# EAGLE library part LTC3567 (library LiPoPSU)
LTC3567 High Efficiency USB Power Manager Plus 1A Buck-Boost Converter with I2C Control
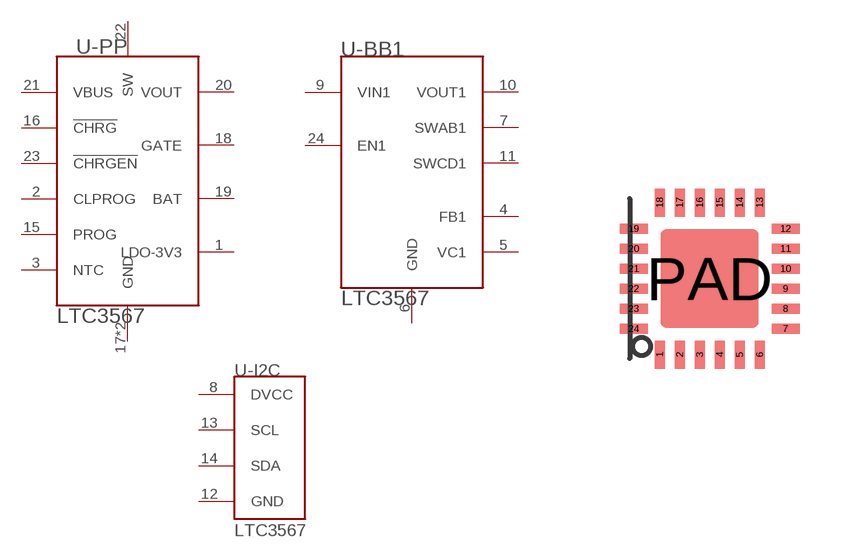
[diagram p0: symbol with the pads of QFN24-4X4(UF); footprint QFN24-4X4(UF)]

Designator prefix U; gates -PP=LTC3567-PP -BB1=LTC3567-BB1 -I2C=LTC3567-I2C

## LTC3567  [QFN24-4X4(UF)]
1  -PP:LDO-3V3
2  -PP:CLPROG
3  -PP:NTC
4  -BB1:FB1
5  -BB1:VC1
6  -BB1:GND  pwr
7  -BB1:SWAB1
8  -I2C:DVCC  in
9  -BB1:VIN1  in
10  -BB1:VOUT1  out
11  -BB1:SWCD1
12  -I2C:GND  pwr
13  -I2C:SCL  in
14  -I2C:SDA  in
15  -PP:PROG
16  -PP:!CHRG!  oc
17  -PP:GND  pwr
18  -PP:GATE
19  -PP:BAT
20  -PP:VOUT
21  -PP:VBUS  in
22  -PP:SW
23  -PP:!CHRGEN!  in
24  -BB1:EN1  in
PAD  -PP:GND  pwr

## Footprint QFN24-4X4(UF) (pad centres in mm)
UF Package 24-Lead Plastic QFN (4mm × 4mm) (Reference LTC DWG # 05-08-1697 Rev B)
smd 0.25 x 0.7: 1 -1.25,-1.9; 2 -0.75,-1.9; 3 -0.25,-1.9; 4 0.25,-1.9; 5 0.75,-1.9; 6 1.25,-1.9; 13 1.25,1.9; 14 0.75,1.9; 15 0.25,1.9; 16 -0.25,1.9; 17 -0.75,1.9; 18 -1.25,1.9
smd 0.7 x 0.25: 7 1.9,-1.25; 8 1.9,-0.75; 9 1.9,-0.25; 10 1.9,0.25; 11 1.9,0.75; 12 1.9,1.25; 19 -1.9,1.25; 20 -1.9,0.75; 21 -1.9,0.25; 22 -1.9,-0.25; 23 -1.9,-0.75; 24 -1.9,-1.25
smd 2.45 x 2.45: PAD 0,0